# Altium integrated library Radar_RF_EAIII.IntLib: 50 symbols
Pins are listed as number, name and electrical type; pins without a type are passive.

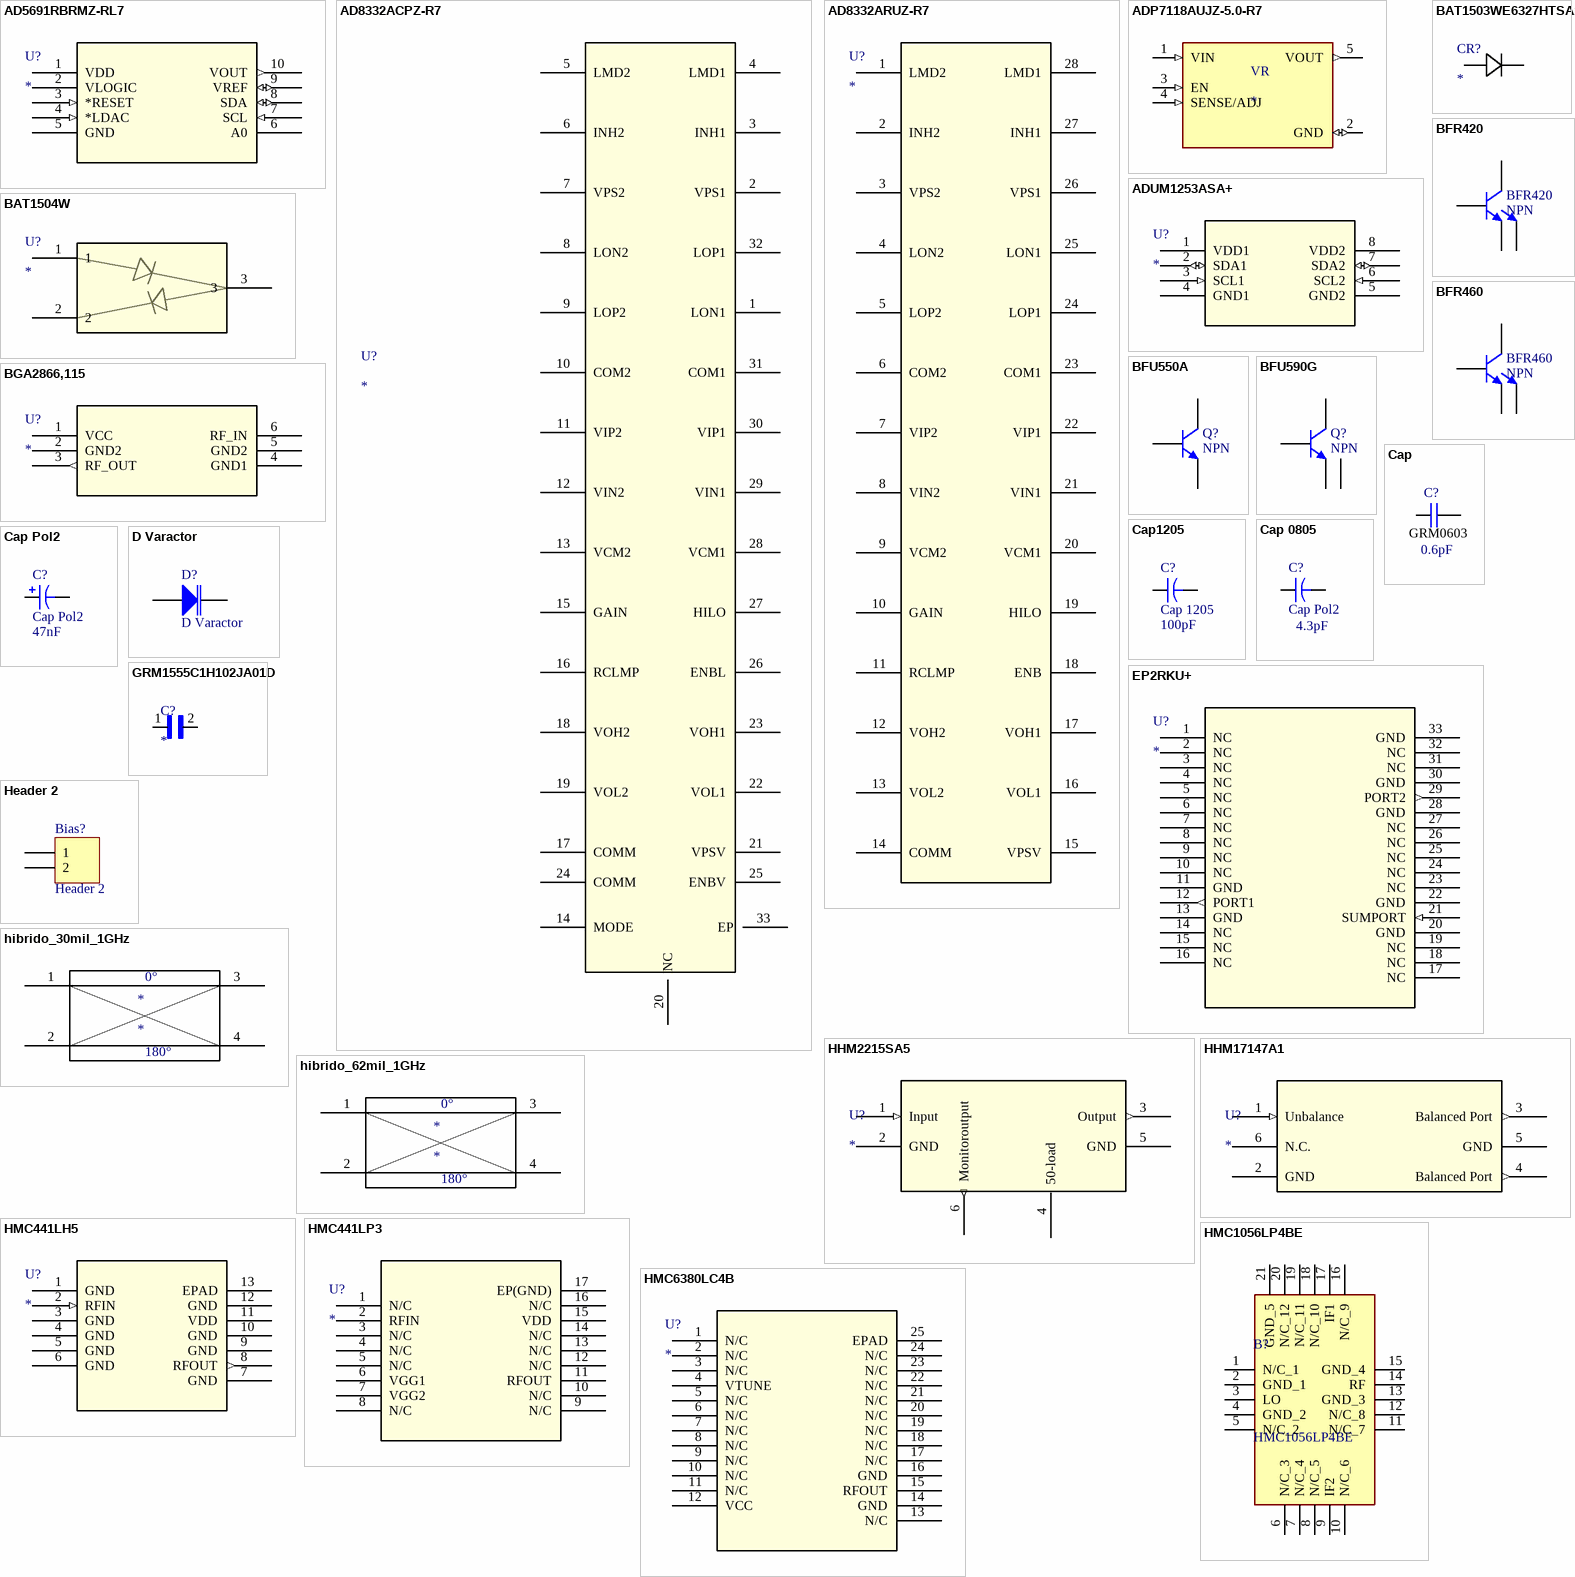
[diagram p0: symbols AD5691RBRMZ-RL7 to HMC6380LC4B]

## AD5691RBRMZ-RL7
designator U?
No Description Available; Mfr_Name: Analog Devices Inc; RefDes: RefDes; Type: Type
footprint RM_10_ADI
pins: 1 VDD (power), 2 VLOGIC (power), 3 *RESET (in), 4 *LDAC (in), 5 GND (power), 6 A0, 7 SCL (in), 8 SDA (io), 9 VREF (io), 10 VOUT (out)

## AD8332ACPZ-R7
designator U?
No Description Available; Mfr_Name: Analog Devices Inc; RefDes: RefDes; Type: Type
footprint CP_32_2_ADI
pins: 1 LON1, 2 VPS1, 3 INH1 (power), 4 LMD1, 5 LMD2, 6 INH2, 7 VPS2, 8 LON2, 9 LOP2, 10 COM2, 11 VIP2, 12 VIN2, 13 VCM2, 14 MODE, 15 GAIN (power), 16 RCLMP, 17 COMM, 18 VOH2, 19 VOL2, 20 NC, 21 VPSV, 22 VOL1, 23 VOH1, 24 COMM, 25 ENBV, 26 ENBL (power), 27 HILO, 28 VCM1, 29 VIN1, 30 VIP1, 31 COM1, 32 LOP1, 33 EP

## AD8332ARUZ-R7
designator U?
No Description Available; Mfr_Name: Analog Devices Inc; RefDes: RefDes; Type: Type
footprint RU_28_ADI
pins: 1 LMD2, 2 INH2, 3 VPS2 (power), 4 LON2, 5 LOP2, 6 COM2, 7 VIP2, 8 VIN2, 9 VCM2, 10 GAIN, 11 RCLMP, 12 VOH2, 13 VOL2, 14 COMM, 15 VPSV (power), 16 VOL1, 17 VOH1, 18 ENB, 19 HILO, 20 VCM1, 21 VIN1, 22 VIP1, 23 COM1, 24 LOP1, 25 LON1, 26 VPS1 (power), 27 INH1, 28 LMD1

## ADP7118AUJZ-5.0-R7
designator VR
Linear Voltage Regulator IC 1 Output 200mA TSOT-23-5; MF: Analog Devices; MP: ADP7118AUJZ-5.0-R7; Package: SOT-23-5 Analog Devices; SnapEDA_Link: https://www.snapeda.com/parts/ADP7118AUJZ-5.0-R7/Analog%20Devices%20Inc./view-part/680756/?ref=snap; Value: *; Price: None; DigiKey-Purchase-URL: https://snapeda.com/shop?store=DigiKey&id=680756; Availability: Unavailable
footprint SOP95P280X100-5N
pins: 1 VIN (in), 2 GND (io), 3 EN (in), 4 SENSE/ADJ (in), 5 VOUT (out)

## ADUM1253ASA+
designator U?
No Description Available; Mfr_Name: Analog Devices Inc; Type: Digital Isolators; RefDes: RefDes
footprint SO8_21-0041_ADI
pins: 1 VDD1 (power), 2 SDA1 (io), 3 SCL1 (in), 4 GND1 (power), 5 GND2 (power), 6 SCL2 (in), 7 SDA2 (io), 8 VDD2 (power)

## BAT1503WE6327HTSA1
designator CR?
No Description Available; Mfr_Name: Infineon
footprint DIODE_SOD323_1P7X1P25_INF
pins: 1, 2

## BAT1504W
designator U?
Diodo; Mfr_Name: Infineon; RefDes: RefDes; Type: Type
footprint SOT_327XTSA1_INF
pins: 1, 2, 3

## BFR420
designator BFR420, comment NPN
NPN Bipolar Transistor; Published: 8-Jun-2000; LatestRevisionDate: 17-Jul-2002; LatestRevisionNote: Re-released for DXP Platform.; PackageReference: TO-226-AA; Publisher: Altium Limited; PackageDescription: TO, Flat Index; 3 In-Line, Axial Leads; Body Dia. 4.8mm; Leads 0.55 x 0.51 mm (max); Code_JEDEC: TO-226-AA
footprint SOT-343_N (SOT143, 4-Leads, Body 2.9x1.3mm, Pitch 1.9mm, Lead Span 2.5mm, IPC Medium Density)
pins: 1 E, 2 C, 3 E, 4 B

## BFR460
designator BFR460, comment NPN
NPN Bipolar Transistor; Published: 8-Jun-2000; LatestRevisionDate: 17-Jul-2002; LatestRevisionNote: Re-released for DXP Platform.; PackageReference: TO-226-AA; Publisher: Altium Limited; PackageDescription: TO, Flat Index; 3 In-Line, Axial Leads; Body Dia. 4.8mm; Leads 0.55 x 0.51 mm (max); Code_JEDEC: TO-226-AA
footprint SOT-343_N (SOT143, 4-Leads, Body 2.9x1.3mm, Pitch 1.9mm, Lead Span 2.5mm, IPC Medium Density)
pins: 1 E, 2 C, 3 E, 4 B

## BFU550A
designator Q?, comment NPN
NPN Bipolar Transistor; Published: 8-Jun-2000; LatestRevisionDate: 17-Jul-2002; LatestRevisionNote: Re-released for DXP Platform.; PackageReference: TO-226-AA; Publisher: Altium Limited; PackageDescription: TO, Flat Index; 3 In-Line, Axial Leads; Body Dia. 4.8mm; Leads 0.55 x 0.51 mm (max); Code_JEDEC: TO-226-AA
footprint SOT23_N
pins: 1 B, 2 E, 3 C

## BFU590G
designator Q?, comment NPN
NPN Bipolar Transistor; Published: 8-Jun-2000; LatestRevisionDate: 17-Jul-2002; LatestRevisionNote: Re-released for DXP Platform.; PackageReference: TO-226-AA; Publisher: Altium Limited; PackageDescription: TO, Flat Index; 3 In-Line, Axial Leads; Body Dia. 4.8mm; Leads 0.55 x 0.51 mm (max); Code_JEDEC: TO-226-AA
footprint SOT223_L (SOT223, 4-Leads, Body 6.5x3.5mm, Pitch 2.3mm, Lead Span 7mm, IPC High Density)
footprint SOT223_M (SOT223, 4-Leads, Body 6.5x3.5mm, Pitch 2.3mm, Lead Span 7mm, IPC Low Density)
footprint SOT223_L (SOT223, 4-Leads, Body 6.5x3.5mm, Pitch 2.3mm, Lead Span 7mm, IPC High Density)
pins: 1 E, 2 B, 3 E, 4 C

## BGA2866,115
designator U?
No Description Available; Mfr_Name: NXP; RefDes: RefDes; Type: Type
footprint SOT363_NXP
pins: 1 VCC (power), 2 GND2 (power), 3 RF_OUT (out), 4 GND1 (power), 5 GND2 (power), 6 RF_IN

## Cap
designator C?, comment value 0.6pF  footprint: GRM0603  (hidden comment: Cap 0603)
Capacitor GRM18 0603; Published: 8-Jun-2000; LatestRevisionDate: 17-Jul-2002; LatestRevisionNote: Re-released for DXP Platform.; PackageReference: POLAR0.8; Publisher: Altium Limited; PackageDescription: Polarized Capacitor; 2 Leads; Supplier 1: Mouser
footprint CAPC1608X90N
pins: 1, 2
1 alternate drawing of the same symbol

## Cap1205
designator C?, comment Cap 1205  value 100pF
Capacitor 1205; Published: 8-Jun-2000; LatestRevisionDate: 17-Jul-2002; LatestRevisionNote: Re-released for DXP Platform.; PackageReference: POLAR0.8; Publisher: Altium Limited; PackageDescription: Polarized Capacitor; 2 Leads
pins: 1, 2
1 alternate drawing of the same symbol

## Cap 0805
designator C?, comment Cap Pol2  value 4.3pF
Capacitor 0805; Published: 8-Jun-2000; LatestRevisionDate: 17-Jul-2002; LatestRevisionNote: Re-released for DXP Platform.; PackageReference: POLAR0.8; Publisher: Altium Limited; PackageDescription: Polarized Capacitor; 2 Leads
footprint 6-0805_N (Chip Resistor, Body 2.0x1.2mm, IPC Medium Density)
pins: 1, 2
1 alternate drawing of the same symbol

## Cap Pol2
designator C?  value 47nF
Polarized Capacitor (Axial); Published: 8-Jun-2000; LatestRevisionDate: 17-Jul-2002; LatestRevisionNote: Re-released for DXP Platform.; PackageReference: POLAR0.8; Publisher: Altium Limited; PackageDescription: Polarized Capacitor; 2 Leads
footprint POLAR0.8 (Polarized Capacitor; 2 Leads)
simulation model CAP (Capacitor)
signal-integrity model Cap Pol
footprint 6-0805_N (Chip Resistor, Body 2.0x1.2mm, IPC Medium Density)
pins: 1, 2
1 alternate drawing of the same symbol

## D Varactor
designator D?
Variable Capacitance Diode; Note: Pin 2 is not connected and not drawn.; Published: 8-Jun-2000; LatestRevisionDate: 29-May-2009; LatestRevisionNote: IPC-7351 Footprint Added.; DatasheetVersion: Jan-1998; PackageVersion: 1996; PackageReference: SOT23A; Publisher: Altium Limited; PackageDescription: 3-Pin SOT-23 Package 0.95 mm Pitch, 2.3 mm Lead Span - Reverse Pinning; ComponentLink1Description: Manufacturer Link; ComponentLink1URL: http://www.zetex.com/
footprint SOT23_N (SOT23, 3-Leads, Body 2.9x1.3mm, Pitch 0.95mm, Lead Span 2.3mm - Reverse Pinning, IPC Medium Density)
footprint 6-0805_N (Chip Resistor, Body 2.0x1.2mm, IPC Medium Density)
pins: 1 A, 2 K

## EP2RKU+
designator U?
No Description Available; Mfr_Name: Mini Circuits; RefDes: RefDes; Type: Type
footprint DG1677-2_MNC
pins: 1 NC, 2 NC, 3 NC, 4 NC, 5 NC, 6 NC, 7 NC, 8 NC, 9 NC, 10 NC, 11 GND (power), 12 PORT1 (out), 13 GND (power), 14 NC, 15 NC, 16 NC, 17 NC, 18 NC, 19 NC, 20 GND (power), 21 SUMPORT (in), 22 GND (power), 23 NC, 24 NC, 25 NC, 26 NC, 27 NC, 28 GND (power), 29 PORT2 (out), 30 GND (power), 31 NC, 32 NC, 33 GND (power)

## GRM1555C1H102JA01D
designator C?
SMD Capacitor C0G(EIA) with Capacitance: 1000pF Tol. 5%. Rated Voltage: 50Vdc; MF: Murata; MP: GRM1555C1H102JA01D; Value: *; SnapEDA_Link: https://www.snapeda.com/parts/GRM1555C1H102JA01D/Murata/view-part/4380663/?ref=snap; Check_prices: https://www.snapeda.com/parts/GRM1555C1H102JA01D/Murata/view-part/4380663/?ref=eda; Purchase-URL: https://pricing.snapeda.com/search/part/GRM1555C1H102JA01D/?ref=eda; Digi-Key_Part_Number: 490-3244-1-ND; Package: 1005 Taiyo Yuden
footprint CAPC1005X55N
pins: 1, 2

## Header 2
designator Bias?
Header, 2-Pin; LatestRevisionDate: 17-Jul-2002; LatestRevisionNote: Re-released for DXP Platform.; Publisher: Altium Limited
footprint HDR1X2 (Connector; Header; 2 Position)
signal-integrity model Connector
pins: 1, 2

## HHM2215SA5
designator U?
No Description Available; Mfr_Name: TDK; RefDes: RefDes; Type: Type
footprint HHM-6_1P6X0P8
pins: 1 Input (in), 2 GND (power), 3 Output (out), 4 50-load, 5 GND (power), 6 Monitoroutput (out)

## HHM17147A1
designator U?
No Description Available; Mfr_Name: TDK; RefDes: RefDes; Type: Type
footprint HHM-6_1P6X0P8
pins: 1 Unbalance (in), 2 GND (power), 3 Balanced Port (out), 4 Balanced Port (out), 5 GND (power), 6 N.C.

## hibrido_30mil_1GHz
designator *
footprint hibrido_30mil_1GHz
pins: 1, 2, 3, 4
text: 0°; 180°

## hibrido_62mil_1GHz
designator *
footprint hibrido_62mil_1GHz
footprint hibrido_62mil_1GHz
pins: 1, 2, 3, 4
text: 0°; 180°

## HMC441LH5
designator U?
No Description Available; Mfr_Name: Analog Devices Inc; RefDes: RefDes; Type: Type
footprint E-12-3_ADI
pins: 1 GND (power), 2 RFIN (in), 3 GND (power), 4 GND (power), 5 GND (power), 6 GND (power), 7 GND (power), 8 RFOUT (out), 9 GND (power), 10 GND (power), 11 VDD (power), 12 GND (power), 13 EPAD (power)

## HMC441LP3
designator U?
No Description Available; Mfr_Name: Analog Devices Inc; RefDes: RefDes; Type: Type
footprint HCP_16_1_ADI
pins: 1 N/C, 2 RFIN, 3 N/C, 4 N/C, 5 N/C, 6 VGG1, 7 VGG2, 8 N/C, 9 N/C, 10 N/C, 11 RFOUT, 12 N/C, 13 N/C, 14 N/C, 15 VDD, 16 N/C, 17 EP(GND)

## HMC1056LP4BE
designator B?
Up/Down Conv Mixer 12GHz 20-Pin QFN EP T/R; Manufacturer_Name: Analog Devices; Geometry.Height: 1mm; Mouser Part Number: 584-HMC1056LP4BE; Mouser Price/Stock: https://www.mouser.co.uk/ProductDetail/Analog-Devices/HMC1056LP4BE?qs=pceeu5JH%2FH%252BD3P3b%252BgUoTg%3D%3D; Manufacturer_Part_Number: HMC1056LP4BE; Datasheet Link: https://componentsearchengine.com/Datasheets/2/HMC1056LP4BE.pdf
footprint QFN50P400X400X100-21N-D
pins: 1 N/C_1, 2 GND_1, 3 LO, 4 GND_2, 5 N/C_2, 6 N/C_3, 7 N/C_4, 8 N/C_5, 9 IF2, 10 N/C_6, 11 N/C_7, 12 N/C_8, 13 GND_3, 14 RF, 15 GND_4, 16 N/C_9, 17 IF1, 18 N/C_10, 19 N/C_11, 20 N/C_12, 21 GND_5

## HMC6380LC4B
designator U?
No Description Available; Mfr_Name: Analog Devices Inc; RefDes: RefDes; Type: Type
footprint E-24-2_ADI
pins: 1 N/C, 2 N/C, 3 N/C, 4 VTUNE, 5 N/C, 6 N/C, 7 N/C, 8 N/C, 9 N/C, 10 N/C, 11 N/C, 12 VCC, 13 N/C, 14 GND, 15 RFOUT, 16 GND, 17 N/C, 18 N/C, 19 N/C, 20 N/C, 21 N/C, 22 N/C, 23 N/C, 24 N/C, 25 EPAD

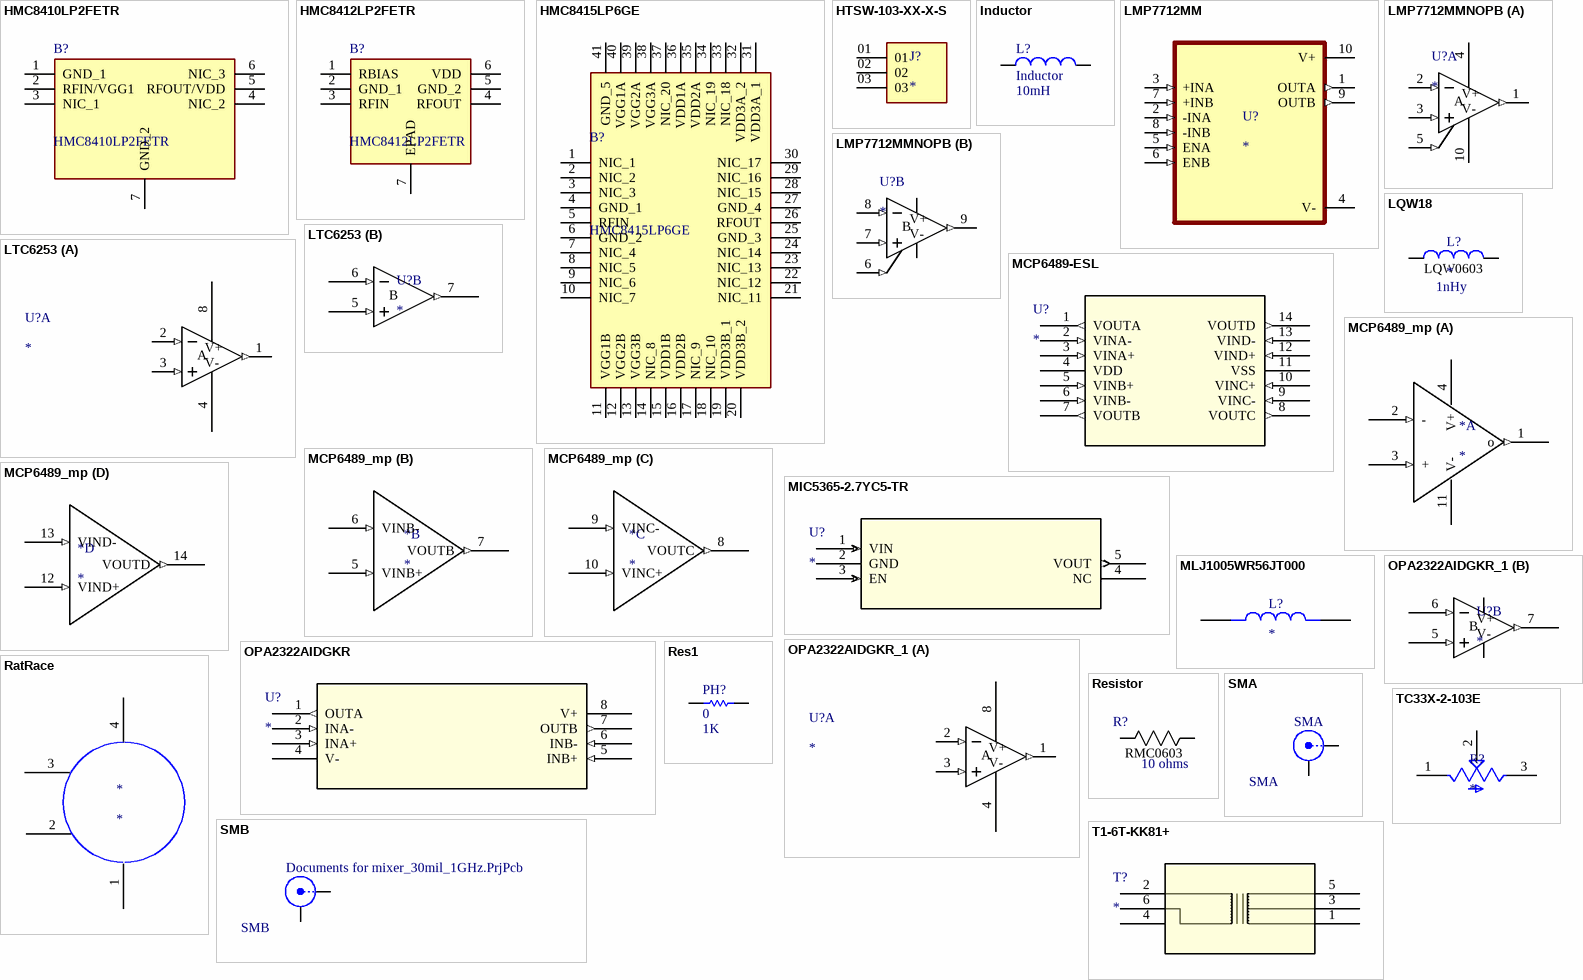
[diagram p1: symbols HMC8410LP2FETR to TC33X-2-103E]

## HMC8410LP2FETR
designator B?
RF Amplifier Wideband LNAs-DC-8GHz P1dB20dBm-20dB Gai; Manufacturer_Name: Analog Devices; Geometry.Height: 0.9mm; Mouser Part Number: 584-HMC8410LP2FETR; Mouser Price/Stock: https://www.mouser.co.uk/ProductDetail/Analog-Devices/HMC8410LP2FETR?qs=cslStgdnz9OJ06K7wW%252BCAQ%3D%3D; Manufacturer_Part_Number: HMC8410LP2FETR; Datasheet Link: http://www.analog.com/media/en/technical-documentation/data-sheets/HMC8410.pdf
footprint SON65P200X200X90-7N-D
pins: 1 GND_1, 2 RFIN/VGG1, 3 NIC_1, 4 NIC_2, 5 RFOUT/VDD, 6 NIC_3, 7 GND_2

## HMC8412LP2FETR
designator B?
RF Amplifier IC Radar 400MHz ~ 11GHz 6-LFCSP (2x2); Manufacturer_Name: Analog Devices; Geometry.Height: 0.9mm; Mouser Part Number: 584-HMC8412LP2FETR; Mouser Price/Stock: https://www.mouser.co.uk/ProductDetail/Analog-Devices/HMC8412LP2FETR?qs=sPbYRqrBIVnPzhYurPI7Fw%3D%3D; Manufacturer_Part_Number: HMC8412LP2FETR; Datasheet Link: https://www.analog.com/media/en/technical-documentation/data-sheets/hmc8412.pdf
footprint SON65P200X200X90-7N
pins: 1 RBIAS, 2 GND_1, 3 RFIN, 4 RFOUT, 5 GND_2, 6 VDD, 7 EPAD

## HMC8415LP6GE
designator B?
40 W (46 dBm), 9 GHz to 10.5 GHz, GaN Power Amplifier; Manufacturer_Name: Analog Devices; Geometry.Height: 0.8mm; Mouser Part Number: 584-HMC8415LP6GE; Mouser Price/Stock: https://www.mouser.co.uk/ProductDetail/Analog-Devices/HMC8415LP6GE?qs=HXFqYaX1Q2wsDh3UVUHuHQ%3D%3D; Manufacturer_Part_Number: HMC8415LP6GE; Datasheet Link: https://www.analog.com/HMC8415/datasheet
footprint QFN50P600X600X80-41N-D
pins: 1 NIC_1, 2 NIC_2, 3 NIC_3, 4 GND_1, 5 RFIN, 6 GND_2, 7 NIC_4, 8 NIC_5, 9 NIC_6, 10 NIC_7, 11 VGG1B, 12 VGG2B, 13 VGG3B, 14 NIC_8, 15 VDD1B, 16 VDD2B, 17 NIC_9, 18 NIC_10, 19 VDD3B_1, 20 VDD3B_2, 21 NIC_11, 22 NIC_12, 23 NIC_13, 24 NIC_14, 25 GND_3, 26 RFOUT, 27 GND_4, 28 NIC_15, 29 NIC_16, 30 NIC_17, 31 VDD3A_1, 32 VDD3A_2, 33 NIC_18, 34 NIC_19, 35 VDD2A, 36 VDD1A, 37 NIC_20, 38 VGG3A, 39 VGG2A, 40 VGG1A, 41 GND_5

## HTSW-103-XX-X-S
designator J?
Conn Unshrouded Header HDR 3 POS 2.54mm Solder ST Top Entry Thru-Hole Bag; MP: HTSW-103-08-S-S; MF: Samtec; SnapEDA_Link: https://www.snapeda.com/parts/HTSW-103-08-S-S/Samtec/view-part/?ref=snap; Purchase-URL: https://pricing.snapeda.com/search/part/HTSW-103-08-S-S/?ref=eda; Value: *; Availability: In Stock; Check_prices: https://www.snapeda.com/parts/HTSW-103-08-S-S/Samtec/view-part/?ref=eda; Package: None; Price: None
footprint SAMTEC_HTSW-103-XX-X-S
pins: 01, 02, 03

## Inductor
designator L?  value 10mH
Code_IEC: 1005; Published: 8-Jun-2000; LatestRevisionDate: 29-May-2009; LatestRevisionNote: IPC-7351 Footprint Added.; PackageReference: 0402-A; Publisher: Altium Limited; PackageDescription: Chip Inductor; Code_JEITA: 0402
footprint 0402-A (Chip Inductor, Body 1.0x0.5mm, IPC High Density)
footprint 0603 (Chip Inductor, Body 0.6x0.3mm, IPC High Density)
footprint 6-0805_N (Chip Resistor, Body 2.0x1.2mm, IPC Medium Density)
pins: 1, 2

## LMP7712MM
designator U?
MP: LMP7712MM/NOPB; Package: None; Price: None; Value: *; Availability: Unavailable
footprint SOP50P490X110-10N
pins: 1 OUTA (out), 2 -INA (in), 3 +INA (in), 4 V- (power), 5 ENA (in), 6 ENB (in), 7 +INB (in), 8 -INB (in), 9 OUTB (out), 10 V+ (power)

## LMP7712MMNOPB
designator U?
No Description Available; Mfr_Name: Texas Instruments; PartNumber: LMP7712MM; Manufacturer: NationalSemiconductor; Characteristics: LMP7712MM18VPrecisonDualLowNoiseCMOSInputOpAmpwithShutdown; CompType: OpAmpIC; TaMin_C: -400; TaMax_C: 1250; ComponentLink1DescBC: LMP7712Datasheet; ComponentLink2DescA4: LMP7712WebPage; ComponentLink3DescAC: MUB10APackageWebPage; SymbolVersion: 2008-07-09; PackageDescription: 10LeadMSOP; PackageReference: MUB10A_L; RoHS: O; ComponentLink1URL: http//wwwnationalcom/ds/LM/LMP7712pdf; ComponentLink2URL: http//wwwnationalcom/pf/LM/LMP7712html; ComponentLink3URL: http//wwwnationalcom/packaging/folders/mub10ahtml; Version: B1608; LatestRevisionDate: 2009-03-16; LatestRevisionNote: MassUpdate; Publisher: NationalSemiconductor; Published: 2009-03-16
footprint SOP50P490X110-10N
part A pins: 1 OUT (out), 2 IN- (in), 3 IN+ (in), 4 V- (power), 5 SD1 (in), 10 V+ (power)
part B pins: 6 SD2 (in), 7 IN+ (in), 8 IN- (in), 9 OUT (out)
part A text: A
part B text: B

## LQW18
designator L?  value 1nHy  Parameter 1: LQW0603
Ind RF Chip Wirewound 18nH 5% 100MHz 40Q-Factor 550mA 0603 Paper T/R; MP: LQW18AN18NJ00D; Package: None; Price: None; Availability: Unavailable
footprint INDC1608X100N
pins: 1, 2

## LTC6253
designator U?
No Description Available; Mfr_Name: Texas Instruments; RefDes: RefDes; Type: Type
footprint MSOP-8_MS_LIT
part A pins: 1 OUT (out), 2 IN- (in), 3 IN+ (in), 4 V- (power), 8 V+ (power)
part B pins: 5 INB+ (in), 6 INB- (in), 7 OUTB (out)
part A text: A
part B text: B

## MCP6489-ESL
designator U?
No Description Available; Mfr_Name: Microchip; Type: Linear; RefDes: RefDes
footprint SOIC14_SL_MCH
pins: 1 VOUTA (out), 2 VINA- (in), 3 VINA+ (in), 4 VDD (power), 5 VINB+ (in), 6 VINB- (in), 7 VOUTB (out), 8 VOUTC (out), 9 VINC- (in), 10 VINC+ (in), 11 VSS (power), 12 VIND+ (in), 13 VIND- (in), 14 VOUTD (out)

## MCP6489_mp
designator *
footprint SOIC14_SL_MCH
part A pins: 1 o (out), 2 - (in), 3 + (in), 4 V+ (power), 11 V- (power)
part B pins: 5 VINB+ (in), 6 VINB- (in), 7 VOUTB (out)
part C pins: 8 VOUTC (out), 9 VINC- (in), 10 VINC+ (in)
part D pins: 12 VIND+ (in), 13 VIND- (in), 14 VOUTD (out)

## MIC5365-2.7YC5-TR
designator U?
No Description Available; Mfr_Name: Microchip; RefDes: RefDes; Type: Type
footprint SC-70_C5_MCH
pins: 1 VIN (in), 2 GND (power), 3 EN (in), 4 NC, 5 VOUT (out)

## MLJ1005WR56JT000
designator L?
560 nH Shielded Multilayer Inductor 250 mA 1.4Ohm Max 0402 (1005 Metric) -; MP: MLJ1005WR56JT000; MF: TDK Corporation; Package: 1005-2 TDK; Check_prices: https://www.snapeda.com/parts/MLJ1005WR56JT000/TDK/view-part/?ref=eda; Purchase-URL: https://pricing.snapeda.com/search/part/MLJ1005WR56JT000/?ref=eda; Value: *; Availability: In Stock; Price: None; SnapEDA_Link: https://www.snapeda.com/parts/MLJ1005WR56JT000/TDK/view-part/?ref=snap
footprint IND_MLJ1005WR56JT000
pins: 1, 2

## OPA2322AIDGKR
designator U?
No Description Available; Mfr_Name: Texas Instruments; RefDes: RefDes; Type: Type
footprint DGK8
pins: 1 OUTA (out), 2 INA- (in), 3 INA+ (in), 4 V- (power), 5 INB+ (in), 6 INB- (in), 7 OUTB (out), 8 V+ (power)

## OPA2322AIDGKR_1
designator U?
No Description Available; Mfr_Name: Texas Instruments; RefDes: RefDes; Type: Type
footprint DGK8
part A pins: 1 OUT (out), 2 IN- (in), 3 IN+ (in), 4 V- (power), 8 V+ (power)
part B pins: 5 INB+ (in), 6 INB- (in), 7 OUTB (out)
part A text: A
part B text: B

## RatRace
designator *
footprint ratrace_30mil_1GHz
pins: 1, 2, 3, 4

## Res1
designator PH?, comment 0  value 1K
Resistor; Published: 8-Jun-2000; LatestRevisionDate: 17-Jul-2002; LatestRevisionNote: Re-released for DXP Platform.; PackageReference: AXIAL-0.3; Publisher: Altium Limited; PackageDescription: Axial Device, Thru-Hole; 2 Leads; 0.3 in Pin Spacing
footprint 6-0805_N (Chip Resistor, Body 2.0x1.2mm, IPC Medium Density)
simulation model RESISTOR (Resistor)
signal-integrity model Res
pins: 1, 2

## Resistor
designator R?  value 10 ohms  footprint: RMC0603  (hidden comment: *)
Resistor RMC0603; Mfr_Name: Stackpole International
footprint RESC1508X55N
pins: 1, 2

## SMA
designator SMA
SMA Straight Connector; LatestRevisionDate: 17-Jul-2002; LatestRevisionNote: Re-released for DXP Platform.; Publisher: Altium Limited
footprint SMA-142-0701-851_V2 (SMA 50 Ohm, End Launch Jack Receptacle, Tab Contact)
signal-integrity model Connector
pins: 1 X, 2 Y

## SMB
designator Documents for mixer_30mil_1GHz.PrjPcb
SMB Straight Connector; LatestRevisionDate: 17-Jul-2002; LatestRevisionNote: Re-released for DXP Platform.; Publisher: Altium Limited
footprint SMB_V-RJ45 (Connector; SMB Straight)
signal-integrity model Connector
pins: 1 X, 2 Y

## T1-6T-KK81+
designator T?
No Description Available; Mfr_Name: Mini Circuits; RefDes: RefDes; Type: Type
footprint KK81_MNC
pins: 1, 2 4, 3 2, 4 5, 5 3, 6

## TC33X-2-103E
designator R?
10 kOhms 0.1W, 1/10W J Lead Surface Mount Trimmer Potentiometer Cermet 1 Turn Top Adjustment; MP: TC33X-2-103E; MF: Bourns; SnapEDA_Link: https://www.snapeda.com/parts/TC33X-2-103E/Bourns/view-part/47092/?ref=snap; Package: SOD-23 Bourns; Check_prices: https://www.snapeda.com/parts/TC33X-2-103E/Bourns/view-part/47092/?ref=eda; Value: *; Purchase-URL: https://pricing.snapeda.com/search/part/TC33X-2-103E/?ref=eda; Digi-Key_Part_Number: TC33X-103ECT-ND
footprint TRIM_TC33X-2-103E
pins: 1 CCW, 2 W, 3 CW